# EAGLE library part IS61LV25616AL (library _mtvl.memory)
IS61LV25616AL 256K x 16 HIGH SPEED ASYNCHRONOUS CMOS STATIC RAM WITH 3.3V SUPPLY
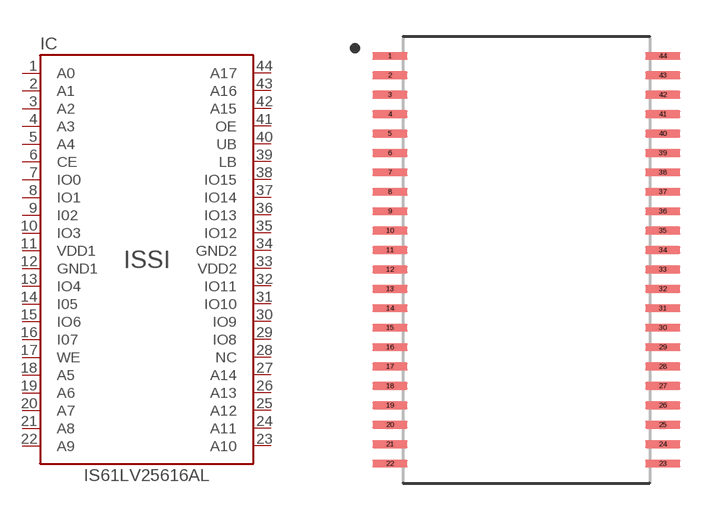
[diagram p6: symbol with the pads of SOP80P1176X120-44N; footprint SOP80P1176X120-44N]

Designator prefix IC

## IS61LV25616AL  [SOP80P1176X120-44N]
1  A0  in
2  A1  in
3  A2  in
4  A3  in
5  A4  in
6  CE  in
7  IO0
8  IO1
9  I02
10  IO3
11  VDD1  sup
12  GND1  sup
13  IO4
14  I05
15  IO6
16  I07
17  WE  in
18  A5  in
19  A6  in
20  A7  in
21  A8  in
22  A9  in
23  A10  in
24  A11  in
25  A12  in
26  A13  in
27  A14  in
28  NC  nc
29  IO8
30  IO9
31  IO10
32  IO11
33  VDD2  sup
34  GND2  sup
35  IO12
36  IO13
37  IO14
38  IO15
39  LB  in
40  UB  in
41  OE  in
42  A15  in
43  A16  in
44  A17  in

## Footprint SOP80P1176X120-44N (pad centres in mm)
smd 1.44 x 0.32: 1 -5.62,8.4; 2 -5.62,7.6; 3 -5.62,6.8; 4 -5.62,6; 5 -5.62,5.2; 6 -5.62,4.4; 7 -5.62,3.6; 8 -5.62,2.8; 9 -5.62,2; 10 -5.62,1.2; 11 -5.62,0.4; 12 -5.62,-0.4; 13 -5.62,-1.2; 14 -5.62,-2; 15 -5.62,-2.8; 16 -5.62,-3.6; 17 -5.62,-4.4; 18 -5.62,-5.2; 19 -5.62,-6; 20 -5.62,-6.8; 21 -5.62,-7.6; 22 -5.62,-8.4; 23 5.62,-8.4; 24 5.62,-7.6; 25 5.62,-6.8; 26 5.62,-6; 27 5.62,-5.2; 28 5.62,-4.4; 29 5.62,-3.6; 30 5.62,-2.8; 31 5.62,-2; 32 5.62,-1.2; 33 5.62,-0.4; 34 5.62,0.4; 35 5.62,1.2; 36 5.62,2; 37 5.62,2.8; 38 5.62,3.6; 39 5.62,4.4; 40 5.62,5.2; 41 5.62,6; 42 5.62,6.8; 43 5.62,7.6; 44 5.62,8.4